# Altium footprint library Different Header Pin Numbers.PcbLib: 4 footprints
Each footprint in its own frame and in the unit in brackets; x right, y up, seen from the top. Pads: shape width x height; smd on the part's side, far side on the other; paste and mask are expansions set on the pad; w line width, h text height; cw(c..) or ccw(c..) is an arc to the next point about the centre after c.
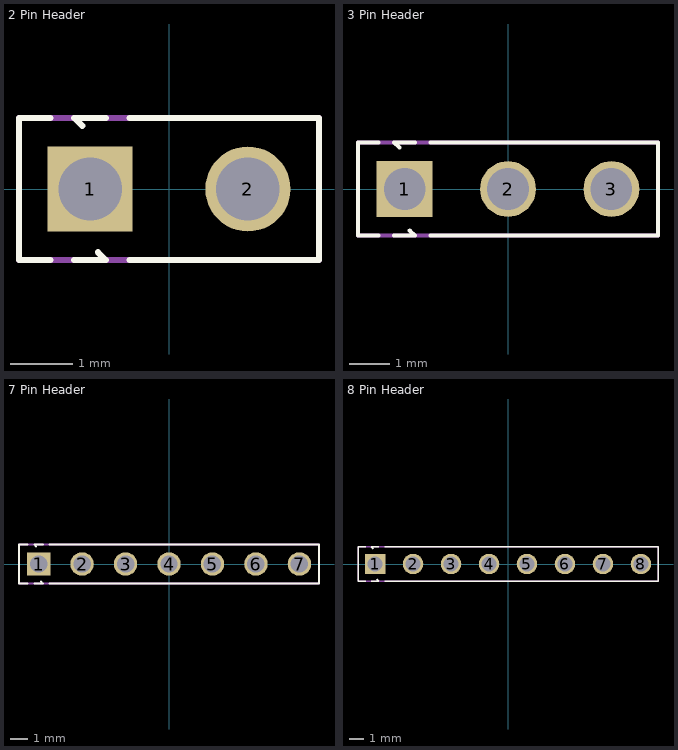
[diagram p0: the footprints below, top view; thin cyan lines are the x and y axes]

## 2 Pin Header [mm]
pads (2):
  rect 1.37x1.37 hole 1.02: 1(-1.27,0)
  round 1.37 hole 1.02: 2(1.27,0)
Top Overlay:
  lines w0.1: -1.905,-1.143 -2.413,-1.143 -2.413,1.143 -1.905,1.143 ; -1.524,-1.143 -1.016,-1.143 -1.143,-1.016 ; -1.397,1.016 -1.524,1.143 -1.016,1.143 ; -0.635,-1.143 2.413,-1.143 2.413,1.143 -0.635,1.143
Mechanical 15:
  lines w0.1: -2.413,-1.143 -2.413,1.143 2.413,1.143 2.413,-1.143 -2.413,-1.143

## 3 Pin Header [mm]
pads (3):
  rect 1.37x1.37 hole 1.02: 1(-2.54,0)
  round 1.37 hole 1.02: 2(0,0) 3(2.54,0)
Top Overlay:
  lines w0.1: -3.175,-1.143 -3.683,-1.143 -3.683,1.143 -3.175,1.143 ; -2.794,-1.143 -2.286,-1.143 -2.413,-1.016 ; -2.667,1.016 -2.794,1.143 -2.286,1.143 ; -1.905,-1.143 3.683,-1.143 3.683,1.143 -1.905,1.143
Mechanical 15:
  lines w0.1: -3.683,-1.143 -3.683,1.143 3.683,1.143 3.683,-1.143 -3.683,-1.143

## 7 Pin Header [mm]
pads (7):
  rect 1.37x1.37 hole 1.02: 1(-7.62,0)
  round 1.37 hole 1.02: 2(-5.08,0) 3(-2.54,0) 4(0,0) 5(2.54,0) 6(5.08,0) 7(7.62,0)
Top Overlay:
  lines w0.1: -8.255,-1.143 -8.763,-1.143 -8.763,1.143 -8.255,1.143 ; -7.874,-1.143 -7.366,-1.143 -7.493,-1.016 ; -7.747,1.016 -7.874,1.143 -7.366,1.143 ; -6.985,-1.143 8.763,-1.143 8.763,1.143 -6.985,1.143
Mechanical 15:
  lines w0.1: -8.763,-1.143 -8.763,1.143 8.763,1.143 8.763,-1.143 -8.763,-1.143

## 8 Pin Header [mm]
pads (8):
  rect 1.37x1.37 hole 1.02: 1(-8.89,0)
  round 1.37 hole 1.02: 2(-6.35,0) 3(-3.81,0) 4(-1.27,0) 5(1.27,0) 6(3.81,0) 7(6.35,0) 8(8.89,0)
Top Overlay:
  lines w0.1: -9.525,-1.143 -10.033,-1.143 -10.033,1.143 -9.525,1.143 ; -9.144,-1.143 -8.636,-1.143 -8.763,-1.016 ; -9.017,1.016 -9.144,1.143 -8.636,1.143 ; -8.255,-1.143 10.033,-1.143 10.033,1.143 -8.255,1.143
Mechanical 15:
  lines w0.1: -10.033,-1.143 10.033,-1.143 10.033,1.143 -10.033,1.143 -10.033,-1.143